# Altium schematic symbol library HumTemp-SHT40-AD1B-R3.SchLib: 1 symbol
Pins are listed as number, name and electrical type; pins without a type are passive.

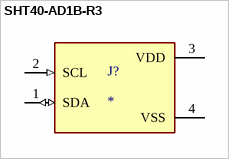
[diagram p0: symbol SHT40-AD1B-R3]

## SHT40-AD1B-R3
designator J?
Digital Relative Humidity Temperature Sensor, Â±1.8 / max 3.5 %RH, Â±0.2 Â°C, Ultra-Low-Power, with filtermembrane; MP: SHT40-AD1B-R3; MF: Sensirion; SnapEDA_Link: https://www.snapeda.com/parts/SHT40-AD1B-R3/Sensirion/view-part/?ref=snap; Price: None; Purchase-URL: https://pricing.snapeda.com/search/part/SHT40-AD1B-R3/?ref=eda; Check_prices: https://www.snapeda.com/parts/SHT40-AD1B-R3/Sensirion/view-part/?ref=eda; Availability: In Stock; Value: *; Package: Package
footprint SHT4X
pins: 1 SDA (io), 2 SCL (in), 3 VDD (power), 4 VSS (power)